# EAGLE library part 1X6HEADER (library elcanoParts)
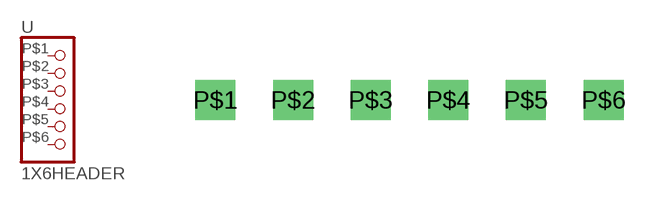
[diagram p2: symbol with the pads of 1X6HEADER; footprint 1X6HEADER]

Designator prefix -

## 1X6HEADER  [1X6HEADER]
P$1  1  pas
P$2  2  pas
P$3  3  pas
P$4  4  pas
P$5  5  pas
P$6  6  pas

## Footprint 1X6HEADER (pad centres in mm)
Small pad header
drill 0.8 square: P$1 0,0; P$2 2.54,0; P$3 5.08,0; P$4 7.62,0; P$5 10.16,0; P$6 12.7,0